# Altium footprint library EdgeConnector.PcbLib: 9 footprints
Each footprint in its own frame and in the unit in brackets; x right, y up, seen from the top. Pads: shape width x height; smd on the part's side, far side on the other; paste and mask are expansions set on the pad; w line width, h text height; cw(c..) or ccw(c..) is an arc to the next point about the centre after c.
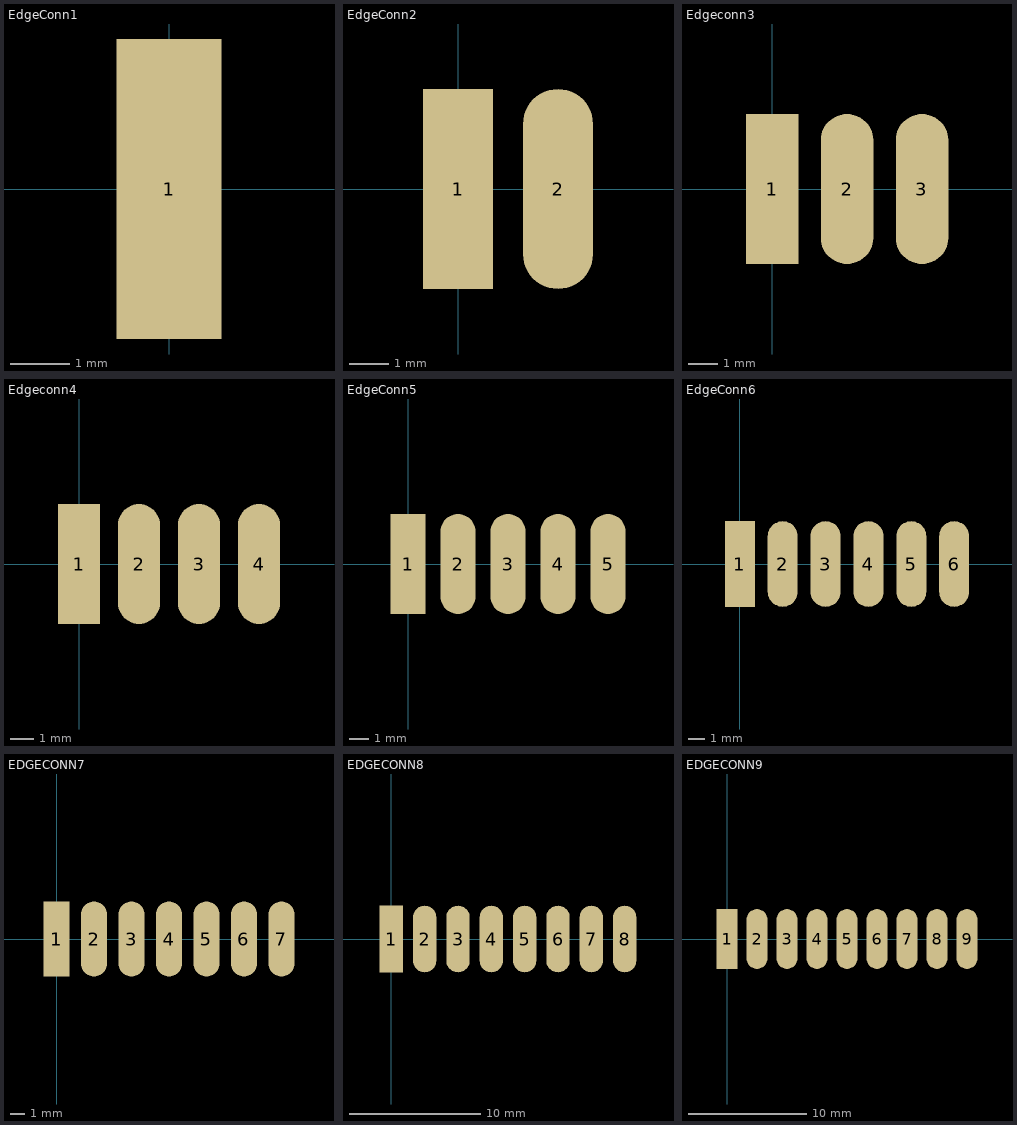
[diagram p0: the footprints below, top view; thin cyan lines are the x and y axes]

## EdgeConn1 [mil]
pads (1):
  rect 70x200 smd: 1(0,0)

## EdgeConn2 [mil]
pads (2):
  rect 70x200 smd: 1(0,0)
  oval 70x200 smd: 2(100,0)

## Edgeconn3 [mil]
pads (3):
  rect 70x200 smd: 1(0,0)
  oval 70x200 smd: 2(100,0) 3(200,0)

## Edgeconn4 [mil]
pads (4):
  rect 70x200 smd: 1(0,0)
  oval 70x200 smd: 2(100,0) 3(200,0) 4(300,0)

## EdgeConn5 [mil]
pads (5):
  rect 70x200 smd: 1(0,0)
  oval 70x200 smd: 2(100,0) 3(200,0) 4(300,0) 5(400,0)

## EdgeConn6 [mil]
pads (6):
  rect 70x200 smd: 1(0,0)
  oval 70x200 smd: 2(100,0) 3(200,0) 4(300,0) 5(400,0) 6(500,0)

## EDGECONN7 [mil]
pads (7):
  rect 70x200 smd: 1(0,0)
  oval 70x200 smd: 2(100,0) 3(200,0) 4(300,0) 5(400,0) 6(500,0) 7(600,0)

## EDGECONN8 [mil]
pads (8):
  rect 70x200 smd: 1(0,0)
  oval 70x200 smd: 2(100,0) 3(200,0) 4(300,0) 5(400,0) 6(500,0) 7(600,0) 8(700,0)

## EDGECONN9 [mil]
pads (9):
  rect 70x200 smd: 1(0,0)
  oval 70x200 smd: 2(100,0) 3(200,0) 4(300,0) 5(400,0) 6(500,0) 7(600,0) 8(700,0) 9(800,0)